# EAGLE library part MAX11142 (library gee_s)
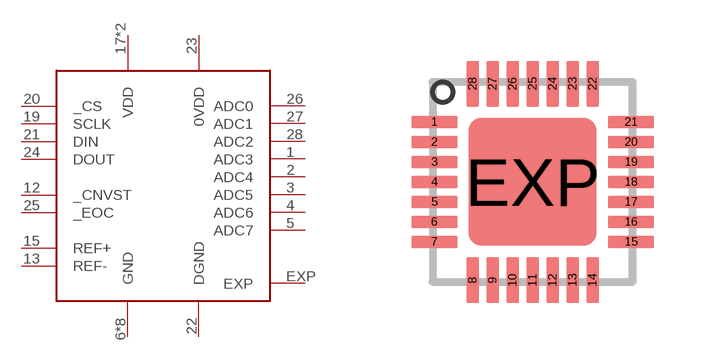
[diagram p14: symbol with the pads of QFN28-ML_6X6MM; footprint QFN28-ML_6X6MM]

Designator prefix -

## MAX11142  [QFN28-ML_6X6MM]
1  ADC3
2  ADC4
3  ADC5
4  ADC6
5  ADC7
6  GND
7  GND
8  GND
9  GND
10  GND
11  GND
12  _CNVST
13  REF-
14  GND
15  REF+
16  GND
17  VDD
18  VDD
19  SCLK
20  _CS
21  DIN
22  DGND
23  0VDD
24  DOUT
25  _EOC
26  ADC0
27  ADC1
28  ADC2
EXP  EXP

## Footprint QFN28-ML_6X6MM (pad centres in mm)
QFN28-ML_6X6MM Source: http://www.microchip.com .. 39637a.pdf
smd 1.15 x 0.3: 1 -2.46,1.5; 2 -2.46,1; 3 -2.46,0.5; 4 -2.46,0; 5 -2.46,-0.5; 6 -2.46,-1; 7 -2.46,-1.5; 15 2.46,-1.5; 16 2.46,-1; 17 2.46,-0.5; 18 2.46,0; 19 2.46,0.5; 20 2.46,1; 21 2.46,1.5
smd 0.3 x 1.15: 8 -1.5,-2.46; 9 -1,-2.46; 10 -0.5,-2.46; 11 0,-2.46; 12 0.5,-2.46; 13 1,-2.46; 14 1.5,-2.46; 22 1.5,2.46; 23 1,2.46; 24 0.5,2.46; 25 0,2.46; 26 -0.5,2.46; 27 -1,2.46; 28 -1.5,2.46
smd 3.2 x 3.2: EXP 0,0